# Altium footprint library диоды.PcbLib: 19 footprints (part 2 of 2)
Each footprint in its own frame and in the unit in brackets; x right, y up, seen from the top. Pads: shape width x height; smd on the part's side, far side on the other; paste and mask are expansions set on the pad; w line width, h text height; cw(c..) or ccw(c..) is an arc to the next point about the centre after c.
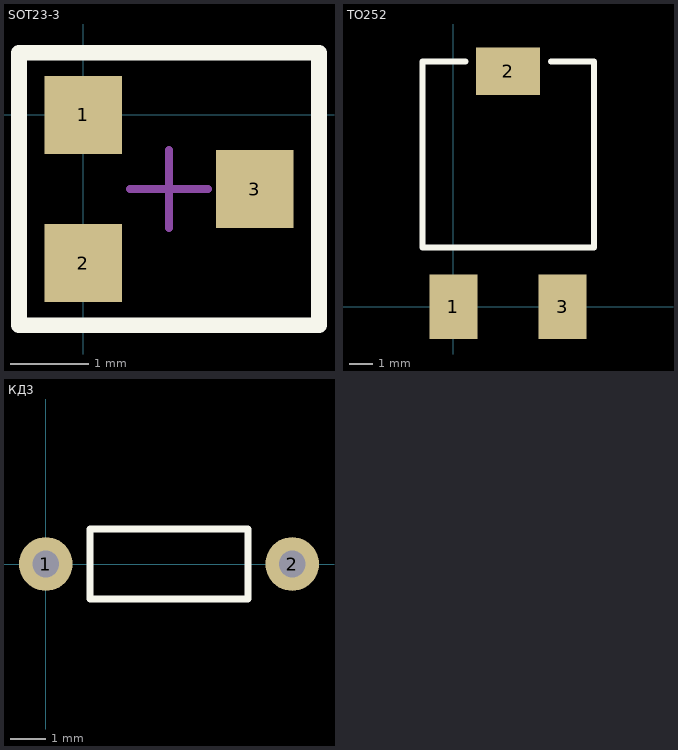
[diagram p1: the footprints below, top view; thin cyan lines are the x and y axes]

## SOT23-3 [mm]
pads (3):
  rect 1x1 smd: 1(0,0) 2(0,-1.9) 3(2.2,-0.95)
Top Overlay:
  lines w0.2: -0.825,-2.7 -0.825,0.8 3.025,0.8 3.025,-2.7 -0.825,-2.7
Mechanical 15:
  lines w0.1: 0.6,-0.95 1.6,-0.95 ; 1.1,-1.45 1.1,-0.45
3D body "SOT23-3.STEP": height 0.55, standoff -0.55, extent -0.15,-2.45 2.35,0.55

## TO252 [mm]
pads (3):
  rect 2x2.7 smd: 1(0,0) 3(4.58,0)
  rect 2.7x2 smd: 2(2.29,9.9)
Top Overlay:
  lines w0.254: 0.5,10.3 -1.3,10.3 -1.3,2.5 5.9,2.5 5.9,10.3 ; 4.1,10.3 5.9,10.3 ; 5.9,10.3 5.9,10.3
3D body "TO252.STEP": height 2.37, standoff -0.03, extent -1.081,-0.383 5.653,9.717

## КД3 [mil]
pads (2):
  round 60 hole 30: 1(0,0) 2(275.59,0)
Top Overlay:
  lines w7.87: 49.21,-39.37 49.21,39.37 226.38,39.37 226.38,-39.37 49.21,-39.37
3D body "КД3.STEP": height 82.68, standoff -31.5, extent -9.84,-35.43 285.43,35.43